# Altium footprint library ControlCircuit_PCB_Library_V1_0.PcbLib: 207 footprints (part 9 of 13)
Each footprint in its own frame and in the unit in brackets; x right, y up, seen from the top. Pads: shape width x height; smd on the part's side, far side on the other; paste and mask are expansions set on the pad; w line width, h text height; cw(c..) or ccw(c..) is an arc to the next point about the centre after c.
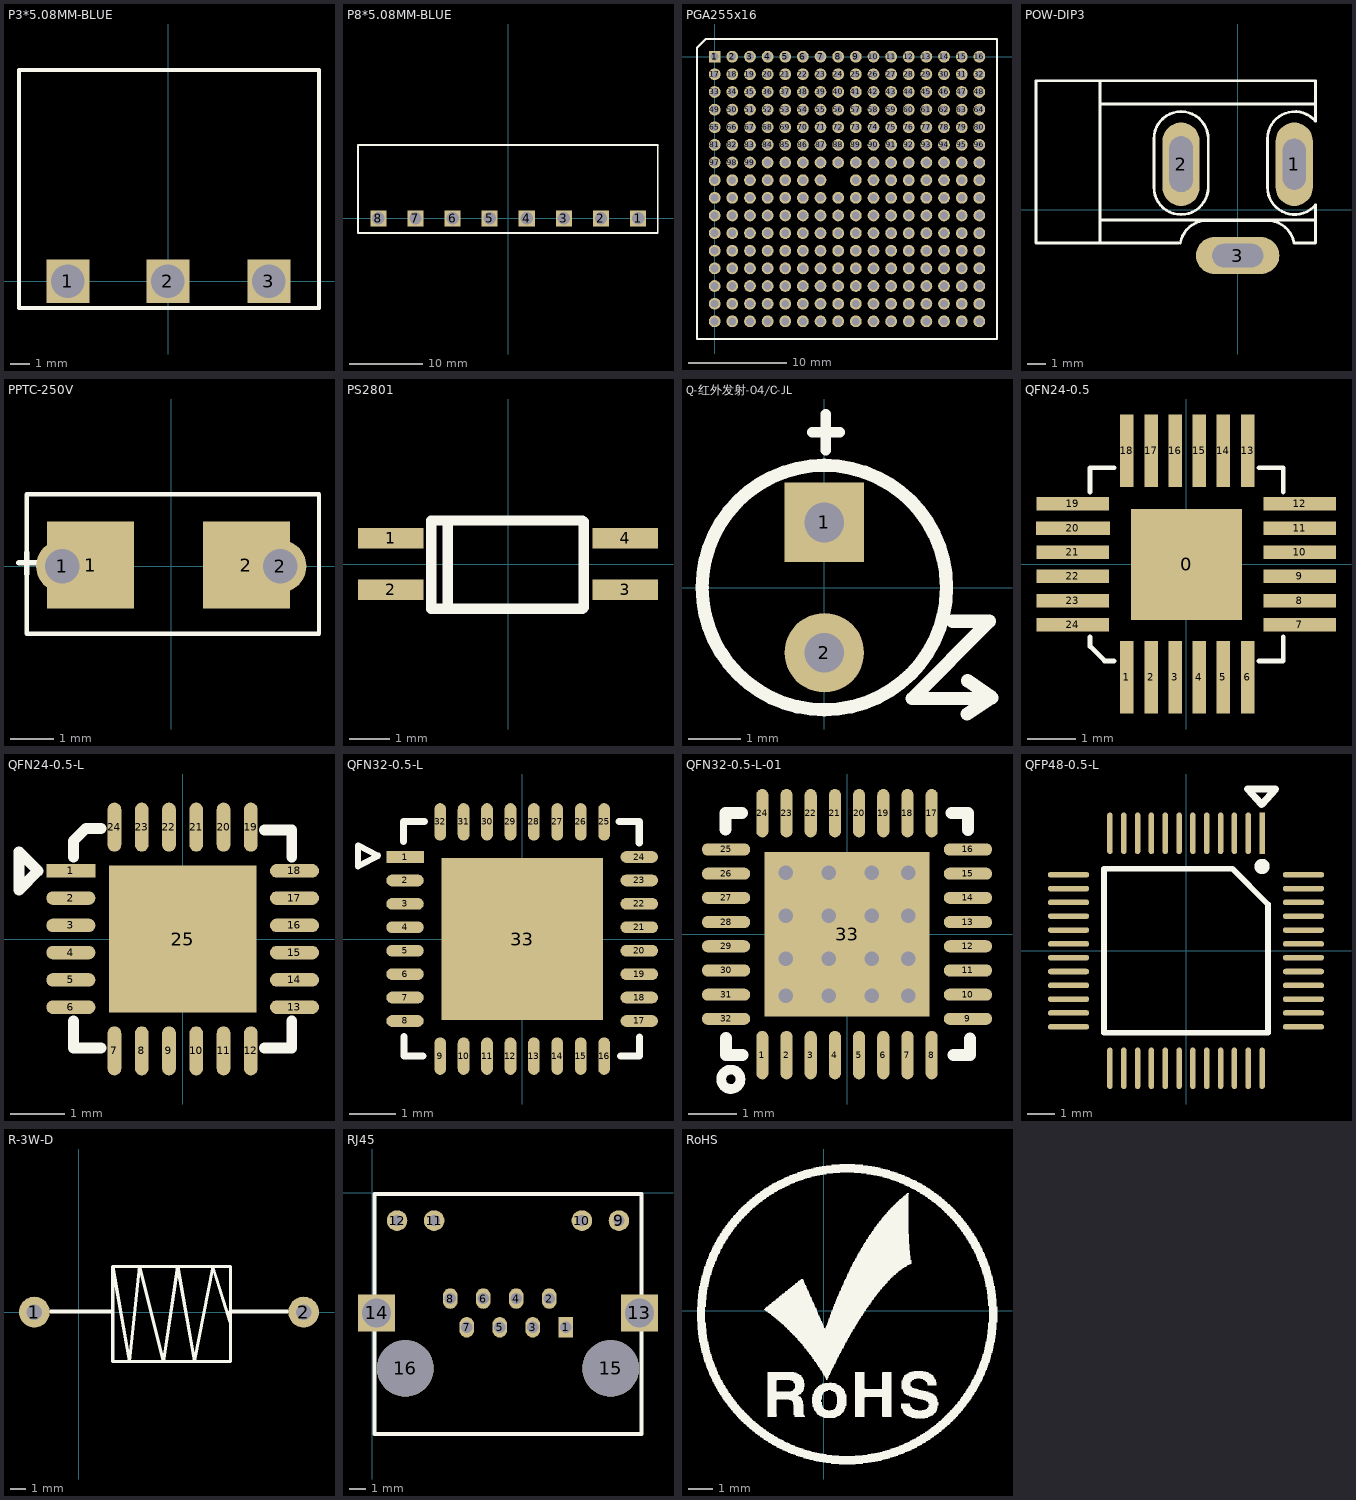
[diagram p8: the footprints below, top view; thin cyan lines are the x and y axes]

## P3*5.08MM-BLUE [mm]
pads (3):
  rect 2.2x2.2 hole 1.7: 1(-5.105,-0.001) 2(-0.025,-0.001) 3(5.105,0.001)
Top Overlay:
  lines w0.2: 7.645,10.679 7.645,-1.351 -7.59,-1.351 -7.59,6.499 -7.59,10.724 7.645,10.724

## P8*5.08MM-BLUE [mm]
pads (8):
  rect 2.2x2.2 hole 1.7: 1(17.78,0) 2(12.7,0) 3(7.62,0) 4(2.54,0) 5(-2.54,0) 6(-7.62,0) 7(-12.7,0) 8(-17.78,0)
Top Overlay:
  lines w0.254: -20.574,10.047 -20.574,-1.991 -20.574,-2.011 -10.358,-2.011 17.505,-2.011 18.013,-2.017 ; -20.461,10.047 -10.033,10.047 ; -10.283,10.047 15.809,10.047 16.317,10.047 ; 16.063,10.047 20.472,10.047 ; 17.526,0.003 18.034,-0.003 ; 17.759,-2.014 20.472,-2.014 20.472,10.047 ; 20.51,10.009 20.472,10.047

## PGA56x10 [mm]

## PGA255x16 [mm]
pads (255):
  rect 1.2x1.2 hole 0.8: 1(0,0)
  round 1.2 hole 0.8: 2(1.8,0) 3(3.6,0) 4(5.4,0) 5(7.2,0) 6(9,0) 7(10.8,0) 8(12.6,0) 9(14.4,0) 10(16.2,0) 11(18,0) 12(19.8,0) 13(21.6,0) 14(23.4,0) 15(25.2,0) 16(27,0) 17(0,-1.8) 18(1.8,-1.8) 19(3.6,-1.8) 20(5.4,-1.8) 21(7.2,-1.8) 22(9,-1.8) 23(10.8,-1.8) 24(12.6,-1.8) 25(14.4,-1.8) 26(16.2,-1.8) 27(18,-1.8) 28(19.8,-1.8) 29(21.6,-1.8) 30(23.4,-1.8) 31(25.2,-1.8) 32(27,-1.8) 33(0,-3.6) 34(1.8,-3.6) 35(3.6,-3.6) 36(5.4,-3.6) 37(7.2,-3.6) 38(9,-3.6) 39(10.8,-3.6) 40(12.6,-3.6) 41(14.4,-3.6) 42(16.2,-3.6) 43(18,-3.6) 44(19.8,-3.6) 45(21.6,-3.6) 46(23.4,-3.6) 47(25.2,-3.6) 48(27,-3.6) 49(0,-5.4) 50(1.8,-5.4) 51(3.6,-5.4) 52(5.4,-5.4) 53(7.2,-5.4) 54(9,-5.4) 55(10.8,-5.4) 56(12.6,-5.4) 57(14.4,-5.4) 58(16.2,-5.4) 59(18,-5.4) 60(19.8,-5.4) 61(21.6,-5.4) 62(23.4,-5.4) 63(25.2,-5.4) 64(27,-5.4) 65(0,-7.2) 66(1.8,-7.2) 67(3.6,-7.2) 68(5.4,-7.2) 69(7.2,-7.2) 70(9,-7.2) 71(10.8,-7.2) 72(12.6,-7.2) 73(14.4,-7.2) 74(16.2,-7.2) 75(18,-7.2) 76(19.8,-7.2) 77(21.6,-7.2) 78(23.4,-7.2) 79(25.2,-7.2) 80(27,-7.2) 81(0,-9) 82(1.8,-9) 83(3.6,-9) 84(5.4,-9) 85(7.2,-9) 86(9,-9) 87(10.8,-9) 88(12.6,-9) 89(14.4,-9) 90(16.2,-9) 91(18,-9) 92(19.8,-9) 93(21.6,-9) 94(23.4,-9) 95(25.2,-9) 96(27,-9) 97(0,-10.8) 98(1.8,-10.8) 99(3.6,-10.8) 100(5.4,-10.8) 101(7.2,-10.8) 102(9,-10.8) 103(10.8,-10.8) 104(12.6,-10.8) 105(14.4,-10.8) 106(16.2,-10.8) 107(18,-10.8) 108(19.8,-10.8) 109(21.6,-10.8) 110(23.4,-10.8) 111(25.2,-10.8) 112(27,-10.8) 113(0,-12.6) 114(1.8,-12.6) 115(3.6,-12.6) 116(5.4,-12.6) 117(7.2,-12.6) 118(9,-12.6) 119(10.8,-12.6) 121(14.4,-12.6) 122(16.2,-12.6) 123(18,-12.6) 124(19.8,-12.6) 125(21.6,-12.6) 126(23.4,-12.6) 127(25.2,-12.6) 128(27,-12.6) 129(0,-14.4) 130(1.8,-14.4) 131(3.6,-14.4) 132(5.4,-14.4) 133(7.2,-14.4) 134(9,-14.4) 135(10.8,-14.4) 136(12.6,-14.4) 137(14.4,-14.4) 138(16.2,-14.4) 139(18,-14.4) 140(19.8,-14.4) 141(21.6,-14.4) 142(23.4,-14.4) 143(25.2,-14.4) 144(27,-14.4) 145(0,-16.2) 146(1.8,-16.2) 147(3.6,-16.2) 148(5.4,-16.2) 149(7.2,-16.2) 150(9,-16.2) 151(10.8,-16.2) 152(12.6,-16.2) 153(14.4,-16.2) 154(16.2,-16.2) 155(18,-16.2) 156(19.8,-16.2) 157(21.6,-16.2) 158(23.4,-16.2) 159(25.2,-16.2) 160(27,-16.2) 161(0,-18) 162(1.8,-18) 163(3.6,-18) 164(5.4,-18) 165(7.2,-18) 166(9,-18) 167(10.8,-18) 168(12.6,-18) 169(14.4,-18) 170(16.2,-18) 171(18,-18) 172(19.8,-18) 173(21.6,-18) 174(23.4,-18) 175(25.2,-18) 176(27,-18) 177(0,-19.8) 178(1.8,-19.8) 179(3.6,-19.8) 180(5.4,-19.8) 181(7.2,-19.8) 182(9,-19.8) 183(10.8,-19.8) 184(12.6,-19.8) 185(14.4,-19.8) 186(16.2,-19.8) 187(18,-19.8) 188(19.8,-19.8) 189(21.6,-19.8) 190(23.4,-19.8) 191(25.2,-19.8) 192(27,-19.8) 193(0,-21.6) 194(1.8,-21.6) 195(3.6,-21.6) 196(5.4,-21.6) 197(7.2,-21.6) 198(9,-21.6) 199(10.8,-21.6) 200(12.6,-21.6) 201(14.4,-21.6) 202(16.2,-21.6) 203(18,-21.6) 204(19.8,-21.6) 205(21.6,-21.6) 206(23.4,-21.6) 207(25.2,-21.6) 208(27,-21.6) 209(0,-23.4) 210(1.8,-23.4) 211(3.6,-23.4) 212(5.4,-23.4) 213(7.2,-23.4) 214(9,-23.4) 215(10.8,-23.4) 216(12.6,-23.4) 217(14.4,-23.4) 218(16.2,-23.4) 219(18,-23.4) 220(19.8,-23.4) 221(21.6,-23.4) 222(23.4,-23.4) 223(25.2,-23.4) 224(27,-23.4) 225(0,-25.2) 226(1.8,-25.2) 227(3.6,-25.2) 228(5.4,-25.2) 229(7.2,-25.2) 230(9,-25.2) 231(10.8,-25.2) 232(12.6,-25.2) 233(14.4,-25.2) 234(16.2,-25.2) 235(18,-25.2) 236(19.8,-25.2) 237(21.6,-25.2) 238(23.4,-25.2) 239(25.2,-25.2) 240(27,-25.2) 241(0,-27) 242(1.8,-27) 243(3.6,-27) 244(5.4,-27) 245(7.2,-27) 246(9,-27) 247(10.8,-27) 248(12.6,-27) 249(14.4,-27) 250(16.2,-27) 251(18,-27) 252(19.8,-27) 253(21.6,-27) 254(23.4,-27) 255(25.2,-27) 256(27,-27)
Top Overlay:
  lines w0.2: -1.8,-28.8 -1.8,0.9 -0.9,1.8 28.8,1.8 28.8,-28.8 -1.8,-28.8

## POW-DIP3 [mil]
pads (3):
  oval 80x180 hole 50 slot 110 at 90 deg: 1(122.05,98.42)
  oval 80x180 hole 50 slot 120 at 90 deg: 2(-122.05,98.42)
  oval 180x80 hole 50 slot 110 at 0 deg: 3(0,-98.42)
Top Overlay:
  lines w6: -297.05,-21.57 167.95,-21.57 ; -297.05,228.43 163.08,228.43 167.2,228.43 ; -292.05,278.43 -312.05,278.43 -434.84,278.43 -434.84,-71.58 -297.05,-71.58 ; -180.57,48.42 -180.57,153.43 cw(c-122.05,153.43) -63.52,153.43 ; -180.57,48.43 ccw(c-122.05,48.42) -63.52,48.42 -63.52,153.43 ; -128.05,-71.58 -297.05,-71.58 ; -123.68,-71.41 cw(c-66.05,-81.58) -66.05,-23.05 63.95,-23.05 cw(c63.95,-81.58) 121.59,-71.41 ; 64.43,48.42 64.43,153.43 cw(c122.95,153.43) 167.78,191.04 167.95,278.43 -297.05,278.43 -297.05,-71.58 ; 64.43,48.43 ccw(c122.95,48.42) 167.78,10.81 ; 122.95,-71.58 167.95,-71.58 167.95,8.43 ; -63.52,153.43 -63.52,153.43

## PPTC-250V [mm]
pads (4):
  round 1.2 hole 0.8: 1(-2.5,0) 2(2.5,0)
  rect 2x2 smd: 1(-1.85,0.025) 2(1.725,0.025)
Top Overlay:
  lines w0.1: -3.317,-1.549 3.389,-1.549 3.389,1.651 -3.317,1.651 -3.317,-1.549
  lines w0.127: -3.491,0.075 -3.11,0.075 ; -3.313,-0.179 -3.313,0.304

## PS2801 [mm]
pads (4):
  rect 1.6x0.5 smd: 1(-2.873,0.635) 2(-2.873,-0.635) 3(2.873,-0.635) 4(2.873,0.635)
Top Overlay:
  lines w0.254: -1.476,-1.092 -1.476,1.067 ; 1.826,1.067 -1.883,1.067 -1.883,-1.092 1.826,-1.092 1.851,-1.067 1.851,1.041

## Q-红外发射-04/C-JL [mil]
pads (2):
  rect 60x60 hole 30: 1(0,49.21)
  round 60 hole 30: 2(0,-49.21)
Top Overlay:
  circle w10: c0,0 r92.32
  lines w7.87: -9.06,117.32 11.81,117.32 ; 1.18,103.54 1.18,131.1
  lines w10: 96.77,-25.47 124.69,-25.47 66.34,-83.82 119.65,-83.82 ; 107.76,-95.51 126.54,-83.15 108.23,-70.31

## QFN24-0.5 [mm]
pads (25):
  rect 2.3x2.3 smd: 0(0.006,-0.007)
  rect 0.28x1.5 smd: 1(-1.232,-2.349) 2(-0.732,-2.349) 3(-0.232,-2.349) 4(0.268,-2.349) 5(0.768,-2.349) 6(1.268,-2.349) 13(1.268,2.349) 14(0.768,2.349) 15(0.268,2.349) 16(-0.232,2.349) 17(-0.732,2.349) 18(-1.232,2.349)
  rect 1.5x0.28 smd: 7(2.349,-1.257) 8(2.349,-0.757) 9(2.349,-0.257) 10(2.349,0.243) 11(2.349,0.743) 12(2.349,1.243) 19(-2.349,1.243) 21(-2.349,0.243) 22(-2.349,-0.257) 23(-2.349,-0.757) 24(-2.349,-1.257)
  rect 1.53x0.28 smd: 20(-2.349,0.743)
Top Overlay:
  lines w0.1: -1.994,-1.507 -1.994,-1.707 -1.694,-2.007 -1.494,-2.007 ; -1.994,1.493 -1.994,1.993 -1.494,1.993 ; 1.506,-2.007 2.006,-2.007 2.006,-1.507 ; 1.506,1.993 2.006,1.993 2.006,1.493

## QFN24-0.5-L [mm]
pads (25):
  rect 0.9x0.25 smd: 1(-2.05,1.25)
  oval 0.9x0.25 smd: 2(-2.05,0.75) 3(-2.05,0.25) 4(-2.05,-0.25) 5(-2.05,-0.75) 6(-2.05,-1.25) 13(2.05,-1.25) 14(2.05,-0.75) 15(2.05,-0.25) 16(2.05,0.25) 17(2.05,0.75) 18(2.05,1.25)
  oval 0.25x0.9 smd: 7(-1.25,-2.05) 8(-0.75,-2.05) 9(-0.25,-2.05) 10(0.25,-2.05) 11(0.75,-2.05) 12(1.25,-2.05) 19(1.25,2.05) 20(0.75,2.05) 21(0.25,2.05) 22(-0.25,2.05) 23(-0.75,2.05) 24(-1.25,2.05)
  rect 2.7x2.7 smd: 25(0,0)
Top Overlay:
  lines w0.2: -2,-1.5 -2,-2 -1.5,-2 ; -2,1.5 -2,1.8 -1.775,2.025 -1.5,2.025 ; 1.5,-2 2,-2 2,-1.5 ; 1.5,2 2,2 2,1.5 ; -3,0.9 -2.65,1.25 -3,1.6 -3,0.9

## QFN32-0.5-L [mm]
pads (33):
  rect 0.8x0.25 smd: 1(-2.5,1.75)
  oval 0.8x0.25 smd: 2(-2.5,1.25) 3(-2.5,0.75) 4(-2.5,0.25) 5(-2.5,-0.25) 6(-2.5,-0.75) 7(-2.5,-1.25) 8(-2.5,-1.75) 17(2.5,-1.75) 18(2.5,-1.25) 19(2.5,-0.75) 20(2.5,-0.25) 21(2.5,0.25) 22(2.5,0.75) 23(2.5,1.25) 24(2.5,1.75)
  oval 0.25x0.8 smd: 9(-1.75,-2.5) 10(-1.25,-2.5) 11(-0.75,-2.5) 12(-0.25,-2.5) 13(0.25,-2.5) 14(0.75,-2.5) 15(1.25,-2.5) 16(1.75,-2.5) 25(1.75,2.5) 26(1.25,2.5) 27(0.75,2.5) 28(0.25,2.5) 29(-0.25,2.5) 30(-0.75,2.5) 31(-1.25,2.5) 32(-1.75,2.5)
  rect 3.45x3.45 smd: 33(0,0)
Top Overlay:
  lines w0.127: -3.504,1.55 -3.504,2 -3.073,1.78 -3.504,1.55
  lines w0.15: -2.53,2.08 -2.53,2.51 -2.09,2.51 ; -2.52,-2.08 -2.52,-2.5 -2.12,-2.5 ; 2.07,2.51 2.5,2.51 2.5,2.05 ; 2.1,-2.5 2.51,-2.5 2.51,-2.09

## QFN32-0.5-L-01 [mm]
pads (33):
  oval 0.25x1 smd: 1(-1.75,-2.5) 2(-1.25,-2.5) 3(-0.75,-2.5) 4(-0.25,-2.5) 5(0.25,-2.5) 6(0.75,-2.5) 7(1.25,-2.5) 8(1.75,-2.5) 17(1.75,2.5) 18(1.25,2.5) 19(0.75,2.5) 20(0.25,2.5) 21(-0.25,2.5) 22(-0.75,2.5) 23(-1.25,2.5) 24(-1.75,2.5)
  oval 1x0.25 smd: 9(2.5,-1.75) 10(2.5,-1.25) 11(2.5,-0.75) 12(2.5,-0.25) 13(2.5,0.25) 14(2.5,0.75) 15(2.5,1.25) 16(2.5,1.75) 25(-2.5,1.75) 26(-2.5,1.25) 27(-2.5,0.75) 28(-2.5,0.25) 29(-2.5,-0.25) 30(-2.5,-0.75) 31(-2.5,-1.25) 32(-2.5,-1.75)
  rect 3.4x3.4 smd: 33(0,0)
via 1.27,-0.508 diameter 0.66 hole 0.3
via 1.27,0.381 diameter 0.66 hole 0.3
via 0.508,-0.508 diameter 0.66 hole 0.3
via 0.508,0.381 diameter 0.66 hole 0.3
via -0.381,-0.508 diameter 0.66 hole 0.3
via -0.381,0.381 diameter 0.66 hole 0.3
via -1.27,-0.508 diameter 0.66 hole 0.3
via -1.27,0.381 diameter 0.66 hole 0.3
via -1.27,-1.27 diameter 0.66 hole 0.3
via -0.381,-1.27 diameter 0.66 hole 0.3
via 0.508,-1.27 diameter 0.66 hole 0.3
via 1.27,-1.27 diameter 0.66 hole 0.3
via 1.27,1.27 diameter 0.66 hole 0.3
via 0.508,1.27 diameter 0.66 hole 0.3
via -0.381,1.27 diameter 0.66 hole 0.3
via -1.27,1.27 diameter 0.66 hole 0.3
Top Overlay:
  circle w0.2: c-2.4,-3 r0.2
  lines w0.25: -2.512,2.165 -2.512,2.504 -2.168,2.504 ; -2.5,-2.144 -2.5,-2.5 -2.156,-2.5 ; 2.162,2.5 2.5,2.5 2.5,2.156 ; 2.199,-2.5 2.543,-2.5 2.543,-2.162

## QFP48-0.5-L [mm]
pads (48):
  rect 0.2x1.5 smd: 1(2.75,4.25)
  oval 0.2x1.5 smd: 2(2.25,4.25) 3(1.75,4.25) 4(1.25,4.25) 5(0.75,4.25) 6(0.25,4.25) 7(-0.25,4.25) 8(-0.75,4.25) 9(-1.25,4.25) 10(-1.75,4.25) 11(-2.25,4.25) 12(-2.75,4.25) 25(-2.75,-4.25) 26(-2.25,-4.25) 27(-1.75,-4.25) 28(-1.25,-4.25) 29(-0.75,-4.25) 30(-0.25,-4.25) 31(0.25,-4.25) 32(0.75,-4.25) 33(1.25,-4.25) 34(1.75,-4.25) 35(2.25,-4.25) 36(2.75,-4.25)
  oval 1.5x0.2 smd: 13(-4.25,2.75) 14(-4.25,2.25) 15(-4.25,1.75) 16(-4.25,1.25) 17(-4.25,0.75) 18(-4.25,0.25) 19(-4.25,-0.25) 20(-4.25,-0.75) 21(-4.25,-1.25) 22(-4.25,-1.75) 23(-4.25,-2.25) 24(-4.25,-2.75) 37(4.25,-2.75) 38(4.25,-2.25) 39(4.25,-1.75) 40(4.25,-1.25) 41(4.25,-0.75) 42(4.25,-0.25) 43(4.25,0.25) 44(4.25,0.75) 45(4.25,1.25) 46(4.25,1.75) 47(4.25,2.25) 48(4.25,2.75)
Top Overlay:
  circle w0.354: c2.75,3.05 r0.1
  lines w0.203: -2.965,-2.965 2.965,-2.965 2.965,1.68 1.68,2.965 -2.965,2.965 -2.965,-2.965
  lines w0.254: 2.227,5.852 3.243,5.852 2.735,5.296 2.227,5.852

## R-3W-D [mm]
pads (2):
  round 2 hole 1: 1(-2.87,0) 2(14.63,0)
Top Overlay:
  lines w0.2: 9.85,-0.625 8.725,2.95 7.55,-3.175 6.45,2.975 5.525,-3.225 3.975,2.975 3.3,-3.2 2.225,2.95 ; 2.225,-3.225 2.225,2.95 ; 2.225,-3.225 2.225,-3.225 ; 2.225,-3.225 9.875,-3.225 9.875,2.95 2.225,2.95 ; 2.225,2.95 2.225,2.95
  lines w0.254: -1.803,0.025 2.134,0.025 2.159,0 ; 9.881,0.025 13.538,0.025

## RJ45 [mm]
height 1.1
pads (16):
  rect 0.9x1.27 hole 0.7: 1(11.955,-8.316)
  oval 0.9x1.27 hole 0.7: 2(10.935,-6.536) 3(9.915,-8.316) 4(8.895,-6.536) 5(7.875,-8.316) 6(6.855,-6.536) 7(5.835,-8.316) 8(4.815,-6.536)
  round 1.27 hole 0.7: 9(15.245,-1.716) 10(12.955,-1.716) 11(3.815,-1.716) 12(1.525,-1.716)
  rect 2.3x2.3 hole 1.8: 13(16.51,-7.426) 14(0.26,-7.426)
  round 3.5 hole 3.5: 15(14.735,-10.856) 16(2.035,-10.856)
Top Overlay:
  lines w0.254: 0.13,-14.925 0.13,-0.061 16.63,-0.061 16.63,-14.925 0.13,-14.925

## RoHS [mm] "环保标识"
Top Overlay:
  drawing of 1785 lines, arcs and shapes, not listed